# EAGLE library part MIC5219-X.XYML-TR (library SW_LDO)
Linear Voltage Regulator IC Positive Fixed 1 Output 500mA 6-DFN (2x2)
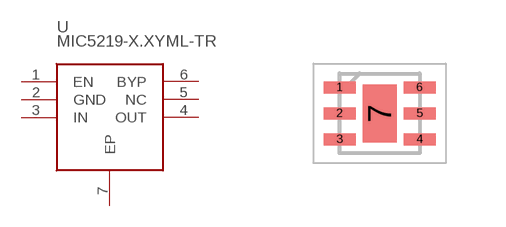
[diagram p1: symbol with the pads of SON65P200X200X90-7N; footprint SON65P200X200X90-7N]

Designator prefix U

## MIC5219-X.XYML-TR (CATEGORY: Power; DESCRIPTION: Linear Voltage Regulator IC Positive Fixed 1 Output 500mA 6-DFN (2x2); MFGS: Microchip; MPNS: MIC5219-3.3YML-TR; PACKAGE: 6-DFN; PART_NUMBER: MIC5219-3.3YML; SW_PART_NUMBER: SW0000827)  [SON65P200X200X90-7N]
1  EN
2  GND
3  IN
4  OUT
5  NC  nc
6  BYP
7  EP

## Footprint SON65P200X200X90-7N (pad centres in mm)
vqfn6
smd 0.8 x 0.3: 1 -1,0.65; 2 -1,0; 3 -1,-0.65; 4 1,-0.65; 5 1,0; 6 1,0.65
smd 0.85 x 1.45: 7 0,0